# Altium schematic symbol library LM358DR.SchLib: 1 symbol
Pins are listed as number, name and electrical type; pins without a type are passive.

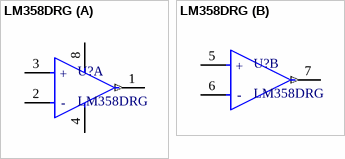
[diagram p0: symbol LM358DRG]

## LM358DRG
designator U?
footprint FP-751-07-IPC_A
footprint FP-751-07-IPC_B
footprint FP-751-07-IPC_C
footprint FP-751-07-MFG
footprint SO8-150
part A pins: 1 OUTPUT A (out), 2 INPUT A- (hiz), 3 INPUT A+ (hiz), 4 VEE/GND (power), 8 VCC (power)
part B pins: 5 INPUT A+ (hiz), 6 INPUT A- (hiz), 7 OUTPUT A (out)
part A text: +; -
part B text: +; -